# EAGLE library part MCP4706 (library Public)
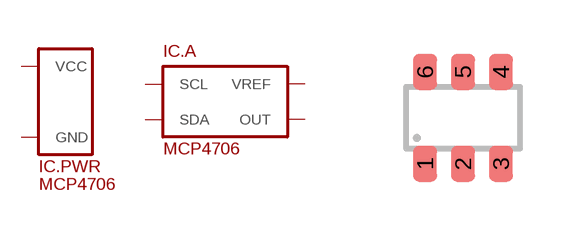
[diagram p18: symbol with the pads of SOT23-6; footprint SOT23-6]

Designator prefix IC; gates .PWR=SUPPLY_VCC/GND .A=MCP4706

## MCP4706  [SOT23-6]
1  .A:OUT
2  .PWR:GND
3  .PWR:VCC
4  .A:SDA
5  .A:SCL
6  .A:VREF

## Footprint SOT23-6 (pad centres in mm)
SOT23-6 SOT26 SC59-6 SC74 TSOP-6 MO-178AB SMT6 SM6 Mini6 SOT457
smd 0.6 x 0.9: 1 -0.95,-1.15; 2 0,-1.15; 3 0.95,-1.15; 4 0.95,1.15; 5 0,1.15; 6 -0.95,1.15